# Altium integrated library WE-PD3 SMD Shielded Power Inductor.IntLib: 65 symbols
Pins are listed as number, name and electrical type; pins without a type are passive.

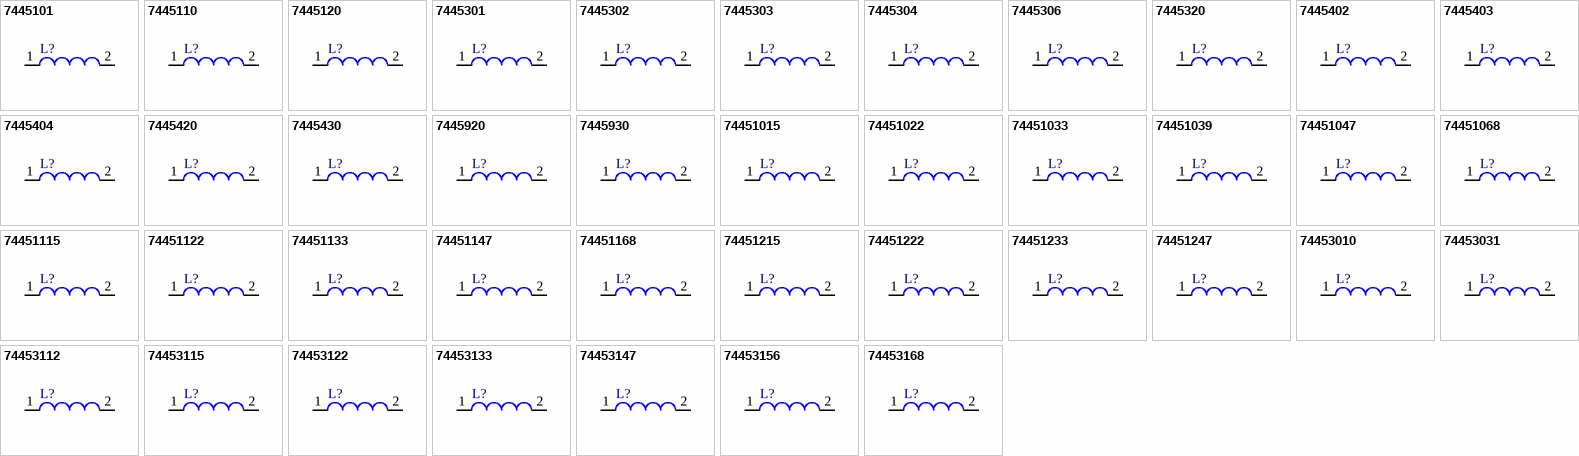
[diagram p0: symbols 7445101 to 74453168]

## 7445101
designator L?
SMD Shielded Power Inductor WE-PD3, L = 1.00 µH; PartNumber: 7445101; Inductance: 1.00 µH; DatasheetVersion: ver 7, Feb-2009; PackageReference: WE-PD3-S; PackageDescription: SMD Inductor, 2-Leads, Body 6.6 x 4.45 mm; ComponentLink1Description: Manufacturer URL; ComponentLink1URL: http://www.we-online.com; ComponentLink2Description: Datasheet; ComponentLink2URL: http://www.we-online.de/katalog/media/pdf/7445101.pdf
footprint WE-PD3-S (SMD Inductor, 2-Leads, Body 6.6x4.45x2.92 mm)
pins: 1, 2

## 7445110
designator L?
SMD Shielded Power Inductor WE-PD3, L = 10.0 µH; PartNumber: 7445110; Inductance: 10.0 µH; DatasheetVersion: ver 7, Feb-2009; PackageReference: WE-PD3-S; PackageDescription: SMD Inductor, 2-Leads, Body 6.6 x 4.45 mm; ComponentLink1Description: Manufacturer URL; ComponentLink1URL: http://www.we-online.com; ComponentLink2Description: Datasheet; ComponentLink2URL: http://www.we-online.de/katalog/media/pdf/7445110.pdf
footprint WE-PD3-S (SMD Inductor, 2-Leads, Body 6.6x4.45x2.92 mm)
pins: 1, 2

## 7445120
designator L?
SMD Shielded Power Inductor WE-PD3, L = 100 µH; PartNumber: 7445120; Inductance: 100 µH; DatasheetVersion: ver 7, Feb-2009; PackageReference: WE-PD3-S; PackageDescription: SMD Inductor, 2-Leads, Body 6.6 x 4.45 mm; ComponentLink1Description: Manufacturer URL; ComponentLink1URL: http://www.we-online.com; ComponentLink2Description: Datasheet; ComponentLink2URL: http://www.we-online.de/katalog/media/pdf/7445120.pdf
footprint WE-PD3-S (SMD Inductor, 2-Leads, Body 6.6x4.45x2.92 mm)
pins: 1, 2

## 7445301
designator L?
SMD Shielded Power Inductor WE-PD3, L = 1.50 µH; PartNumber: 7445301; Inductance: 1.50 µH; DatasheetVersion: ver 1, Oct-2004; PackageReference: WE-PD3-M; PackageDescription: SMD Inductor, 2-Leads, Body 12.7 x 10.3 mm; ComponentLink1Description: Manufacturer URL; ComponentLink1URL: http://www.we-online.com; ComponentLink2Description: Datasheet; ComponentLink2URL: http://www.we-online.de/katalog/media/pdf/7445301.pdf
footprint WE-PD3-M (SMD Inductor, 2-Leads, Body 12.7 x 10.3 mm)
pins: 1, 2

## 7445302
designator L?
SMD Shielded Power Inductor WE-PD3, L = 2.20 µH; PartNumber: 7445302; Inductance: 2.20 µH; DatasheetVersion: ver 1, Oct-2004; PackageReference: WE-PD3-M; PackageDescription: SMD Inductor, 2-Leads, Body 12.7 x 10.3 mm; ComponentLink1Description: Manufacturer URL; ComponentLink1URL: http://www.we-online.com; ComponentLink2Description: Datasheet; ComponentLink2URL: http://www.we-online.de/katalog/media/pdf/7445302.pdf
footprint WE-PD3-M (SMD Inductor, 2-Leads, Body 12.7 x 10.3 mm)
pins: 1, 2

## 7445303
designator L?
SMD Shielded Power Inductor WE-PD3, L = 3.90 µH; PartNumber: 7445303; Inductance: 3.90 µH; DatasheetVersion: ver 1, Oct-2004; PackageReference: WE-PD3-M; PackageDescription: SMD Inductor, 2-Leads, Body 12.7 x 10.3 mm; ComponentLink1Description: Manufacturer URL; ComponentLink1URL: http://www.we-online.com; ComponentLink2Description: Datasheet; ComponentLink2URL: http://www.we-online.de/katalog/media/pdf/7445303.pdf
footprint WE-PD3-M (SMD Inductor, 2-Leads, Body 12.7 x 10.3 mm)
pins: 1, 2

## 7445304
designator L?
SMD Shielded Power Inductor WE-PD3, L = 4.70 µH; PartNumber: 7445304; Inductance: 4.70 µH; DatasheetVersion: ver 1, Oct-2004; PackageReference: WE-PD3-M; PackageDescription: SMD Inductor, 2-Leads, Body 12.7 x 10.3 mm; ComponentLink1Description: Manufacturer URL; ComponentLink1URL: http://www.we-online.com; ComponentLink2Description: Datasheet; ComponentLink2URL: http://www.we-online.de/katalog/media/pdf/7445304.pdf
footprint WE-PD3-M (SMD Inductor, 2-Leads, Body 12.7 x 10.3 mm)
pins: 1, 2

## 7445306
designator L?
SMD Shielded Power Inductor WE-PD3, L = 6.80 µH; PartNumber: 7445306; Inductance: 6.80 µH; DatasheetVersion: ver 2, May-2008; PackageReference: WE-PD3-M; PackageDescription: SMD Inductor, 2-Leads, Body 12.7 x 10.3 mm; ComponentLink1Description: Manufacturer URL; ComponentLink1URL: http://www.we-online.com; ComponentLink2Description: Datasheet; ComponentLink2URL: http://www.we-online.de/katalog/media/pdf/7445306.pdf
footprint WE-PD3-M (SMD Inductor, 2-Leads, Body 12.7 x 10.3 mm)
pins: 1, 2

## 7445320
designator L?
SMD Shielded Power Inductor WE-PD3, L = 100 µH; PartNumber: 7445320; Inductance: 100 µH; DatasheetVersion: ver 1, Oct-2004; PackageReference: WE-PD3-M; PackageDescription: SMD Inductor, 2-Leads, Body 12.7 x 10.3 mm; ComponentLink1Description: Manufacturer URL; ComponentLink1URL: http://www.we-online.com; ComponentLink2Description: Datasheet; ComponentLink2URL: http://www.we-online.de/katalog/media/pdf/7445320.pdf
footprint WE-PD3-M (SMD Inductor, 2-Leads, Body 12.7 x 10.3 mm)
pins: 1, 2

## 7445402
designator L?
SMD Shielded Power Inductor WE-PD3, L = 2.20 µH; PartNumber: 7445402; Inductance: 2.20 µH; DatasheetVersion: ver 2, Sep-2006; PackageReference: WE-PD3-L; PackageDescription: SMD Inductor, 2-Leads, Body 12.7 x 10.0 mm; ComponentLink1Description: Manufacturer URL; ComponentLink1URL: http://www.we-online.com; ComponentLink2Description: Datasheet; ComponentLink2URL: http://www.we-online.de/katalog/media/pdf/7445402.pdf
footprint WE-PD3-L (SMD Inductor, 2-Leads, Body 12.7x10.0x5.2 mm)
pins: 1, 2

## 7445403
designator L?
SMD Shielded Power Inductor WE-PD3, L = 3.00 µH; PartNumber: 7445403; Inductance: 3.00 µH; DatasheetVersion: ver 2, Sep-2006; PackageReference: WE-PD3-L; PackageDescription: SMD Inductor, 2-Leads, Body 12.7 x 10.0 mm; ComponentLink1Description: Manufacturer URL; ComponentLink1URL: http://www.we-online.com; ComponentLink2Description: Datasheet; ComponentLink2URL: http://www.we-online.de/katalog/media/pdf/7445403.pdf
footprint WE-PD3-L (SMD Inductor, 2-Leads, Body 12.7x10.0x5.2 mm)
pins: 1, 2

## 7445404
designator L?
SMD Shielded Power Inductor WE-PD3, L = 4.70 µH; PartNumber: 7445404; Inductance: 4.70 µH; DatasheetVersion: ver 2, Sep-2006; PackageReference: WE-PD3-L; PackageDescription: SMD Inductor, 2-Leads, Body 12.7 x 10.0 mm; ComponentLink1Description: Manufacturer URL; ComponentLink1URL: http://www.we-online.com; ComponentLink2Description: Datasheet; ComponentLink2URL: http://www.we-online.de/katalog/media/pdf/7445404.pdf
footprint WE-PD3-L (SMD Inductor, 2-Leads, Body 12.7x10.0x5.2 mm)
pins: 1, 2

## 7445420
designator L?
SMD Shielded Power Inductor WE-PD3, L = 100 µH; PartNumber: 7445420; Inductance: 100 µH; DatasheetVersion: ver 2, Sep-2006; PackageReference: WE-PD3-L; PackageDescription: SMD Inductor, 2-Leads, Body 12.7 x 10.0 mm; ComponentLink1Description: Manufacturer URL; ComponentLink1URL: http://www.we-online.com; ComponentLink2Description: Datasheet; ComponentLink2URL: http://www.we-online.de/katalog/media/pdf/7445420.pdf
footprint WE-PD3-L (SMD Inductor, 2-Leads, Body 12.7x10.0x5.2 mm)
pins: 1, 2

## 7445430
designator L?
SMD Shielded Power Inductor WE-PD3, L = 1000 µH; PartNumber: 7445430; Inductance: 1000 µH; DatasheetVersion: ver 2, Sep-2006; PackageReference: WE-PD3-L; PackageDescription: SMD Inductor, 2-Leads, Body 12.7 x 10.0 mm; ComponentLink1Description: Manufacturer URL; ComponentLink1URL: http://www.we-online.com; ComponentLink2Description: Datasheet; ComponentLink2URL: http://www.we-online.de/katalog/media/pdf/7445430.pdf
footprint WE-PD3-L (SMD Inductor, 2-Leads, Body 12.7x10.0x5.2 mm)
pins: 1, 2

## 7445920
designator L?
SMD Shielded Power Inductor WE-PD3, L = 100 µH; PartNumber: 7445920; Inductance: 100 µH; DatasheetVersion: ver 1, Oct-2004; PackageReference: WE-PD3-X; PackageDescription: SMD Inductor, 2-Leads, Body 18.54 x 15.24 mm; ComponentLink1Description: Manufacturer URL; ComponentLink1URL: http://www.we-online.com; ComponentLink2Description: Datasheet; ComponentLink2URL: http://www.we-online.de/katalog/media/pdf/7445920.pdf
footprint WE-PD3-X (SMD Inductor, 2-Leads, Body 18.54x15.24x7.62 mm)
pins: 1, 2

## 7445930
designator L?
SMD Shielded Power Inductor WE-PD3, L = 1000 µH; PartNumber: 7445930; Inductance: 1000 µH; DatasheetVersion: ver 1, Oct-2004; PackageReference: WE-PD3-X; PackageDescription: SMD Inductor, 2-Leads, Body 18.54 x 15.24 mm; ComponentLink1Description: Manufacturer URL; ComponentLink1URL: http://www.we-online.com; ComponentLink2Description: Datasheet; ComponentLink2URL: http://www.we-online.de/katalog/media/pdf/7445930.pdf
footprint WE-PD3-X (SMD Inductor, 2-Leads, Body 18.54x15.24x7.62 mm)
pins: 1, 2

## 74451015
designator L?
SMD Shielded Power Inductor WE-PD3, L = 1.50 µH; PartNumber: 74451015; Inductance: 1.50 µH; DatasheetVersion: ver 7, Feb-2009; PackageReference: WE-PD3-S; PackageDescription: SMD Inductor, 2-Leads, Body 6.6 x 4.45 mm; ComponentLink1Description: Manufacturer URL; ComponentLink1URL: http://www.we-online.com; ComponentLink2Description: Datasheet; ComponentLink2URL: http://www.we-online.de/katalog/media/pdf/74451015.pdf
footprint WE-PD3-S (SMD Inductor, 2-Leads, Body 6.6x4.45x2.92 mm)
pins: 1, 2

## 74451022
designator L?
SMD Shielded Power Inductor WE-PD3, L = 2.20 µH; PartNumber: 74451022; Inductance: 2.20 µH; DatasheetVersion: ver 7, Feb-2009; PackageReference: WE-PD3-S; PackageDescription: SMD Inductor, 2-Leads, Body 6.6 x 4.45 mm; ComponentLink1Description: Manufacturer URL; ComponentLink1URL: http://www.we-online.com; ComponentLink2Description: Datasheet; ComponentLink2URL: http://www.we-online.de/katalog/media/pdf/74451022.pdf
footprint WE-PD3-S (SMD Inductor, 2-Leads, Body 6.6x4.45x2.92 mm)
pins: 1, 2

## 74451033
designator L?
SMD Shielded Power Inductor WE-PD3, L = 3.30 µH; PartNumber: 74451033; Inductance: 3.30 µH; DatasheetVersion: ver 7, Feb-2009; PackageReference: WE-PD3-S; PackageDescription: SMD Inductor, 2-Leads, Body 6.6 x 4.45 mm; ComponentLink1Description: Manufacturer URL; ComponentLink1URL: http://www.we-online.com; ComponentLink2Description: Datasheet; ComponentLink2URL: http://www.we-online.de/katalog/media/pdf/74451033.pdf
footprint WE-PD3-S (SMD Inductor, 2-Leads, Body 6.6x4.45x2.92 mm)
pins: 1, 2

## 74451039
designator L?
SMD Shielded Power Inductor WE-PD3, L = 3.90 µH; PartNumber: 74451039; Inductance: 3.90 µH; DatasheetVersion: ver 7, Feb-2009; PackageReference: WE-PD3-S; PackageDescription: SMD Inductor, 2-Leads, Body 6.6 x 4.45 mm; ComponentLink1Description: Manufacturer URL; ComponentLink1URL: http://www.we-online.com; ComponentLink2Description: Datasheet; ComponentLink2URL: http://www.we-online.de/katalog/media/pdf/74451039.pdf
footprint WE-PD3-S (SMD Inductor, 2-Leads, Body 6.6x4.45x2.92 mm)
pins: 1, 2

## 74451047
designator L?
SMD Shielded Power Inductor WE-PD3, L = 4.70 µH; PartNumber: 74451047; Inductance: 4.70 µH; DatasheetVersion: ver 7, Feb-2009; PackageReference: WE-PD3-S; PackageDescription: SMD Inductor, 2-Leads, Body 6.6 x 4.45 mm; ComponentLink1Description: Manufacturer URL; ComponentLink1URL: http://www.we-online.com; ComponentLink2Description: Datasheet; ComponentLink2URL: http://www.we-online.de/katalog/media/pdf/74451047.pdf
footprint WE-PD3-S (SMD Inductor, 2-Leads, Body 6.6x4.45x2.92 mm)
pins: 1, 2

## 74451068
designator L?
SMD Shielded Power Inductor WE-PD3, L = 6.80 µH; PartNumber: 74451068; Inductance: 6.80 µH; DatasheetVersion: ver 7, Feb-2009; PackageReference: WE-PD3-S; PackageDescription: SMD Inductor, 2-Leads, Body 6.6 x 4.45 mm; ComponentLink1Description: Manufacturer URL; ComponentLink1URL: http://www.we-online.com; ComponentLink2Description: Datasheet; ComponentLink2URL: http://www.we-online.de/katalog/media/pdf/74451068.pdf
footprint WE-PD3-S (SMD Inductor, 2-Leads, Body 6.6x4.45x2.92 mm)
pins: 1, 2

## 74451115
designator L?
SMD Shielded Power Inductor WE-PD3, L = 15.0 µH; PartNumber: 74451115; Inductance: 15.0 µH; DatasheetVersion: ver 7, Feb-2009; PackageReference: WE-PD3-S; PackageDescription: SMD Inductor, 2-Leads, Body 6.6 x 4.45 mm; ComponentLink1Description: Manufacturer URL; ComponentLink1URL: http://www.we-online.com; ComponentLink2Description: Datasheet; ComponentLink2URL: http://www.we-online.de/katalog/media/pdf/74451115.pdf
footprint WE-PD3-S (SMD Inductor, 2-Leads, Body 6.6x4.45x2.92 mm)
pins: 1, 2

## 74451122
designator L?
SMD Shielded Power Inductor WE-PD3, L = 22.0 µH; PartNumber: 74451122; Inductance: 22.0 µH; DatasheetVersion: ver 7, Feb-2009; PackageReference: WE-PD3-S; PackageDescription: SMD Inductor, 2-Leads, Body 6.6 x 4.45 mm; ComponentLink1Description: Manufacturer URL; ComponentLink1URL: http://www.we-online.com; ComponentLink2Description: Datasheet; ComponentLink2URL: http://www.we-online.de/katalog/media/pdf/74451122.pdf
footprint WE-PD3-S (SMD Inductor, 2-Leads, Body 6.6x4.45x2.92 mm)
pins: 1, 2

## 74451133
designator L?
SMD Shielded Power Inductor WE-PD3, L = 33.0 µH; PartNumber: 74451133; Inductance: 33.0 µH; DatasheetVersion: ver 7, Feb-2009; PackageReference: WE-PD3-S; PackageDescription: SMD Inductor, 2-Leads, Body 6.6 x 4.45 mm; ComponentLink1Description: Manufacturer URL; ComponentLink1URL: http://www.we-online.com; ComponentLink2Description: Datasheet; ComponentLink2URL: http://www.we-online.de/katalog/media/pdf/74451133.pdf
footprint WE-PD3-S (SMD Inductor, 2-Leads, Body 6.6x4.45x2.92 mm)
pins: 1, 2

## 74451147
designator L?
SMD Shielded Power Inductor WE-PD3, L = 47.0 µH; PartNumber: 74451147; Inductance: 47.0 µH; DatasheetVersion: ver 7, Feb-2009; PackageReference: WE-PD3-S; PackageDescription: SMD Inductor, 2-Leads, Body 6.6 x 4.45 mm; ComponentLink1Description: Manufacturer URL; ComponentLink1URL: http://www.we-online.com; ComponentLink2Description: Datasheet; ComponentLink2URL: http://www.we-online.de/katalog/media/pdf/74451147.pdf
footprint WE-PD3-S (SMD Inductor, 2-Leads, Body 6.6x4.45x2.92 mm)
pins: 1, 2

## 74451168
designator L?
SMD Shielded Power Inductor WE-PD3, L = 68.0 µH; PartNumber: 74451168; Inductance: 68.0 µH; DatasheetVersion: ver 7, Feb-2009; PackageReference: WE-PD3-S; PackageDescription: SMD Inductor, 2-Leads, Body 6.6 x 4.45 mm; ComponentLink1Description: Manufacturer URL; ComponentLink1URL: http://www.we-online.com; ComponentLink2Description: Datasheet; ComponentLink2URL: http://www.we-online.de/katalog/media/pdf/74451168.pdf
footprint WE-PD3-S (SMD Inductor, 2-Leads, Body 6.6x4.45x2.92 mm)
pins: 1, 2

## 74451215
designator L?
SMD Shielded Power Inductor WE-PD3, L = 150 µH; PartNumber: 74451215; Inductance: 150 µH; DatasheetVersion: ver 7, Feb-2009; PackageReference: WE-PD3-S; PackageDescription: SMD Inductor, 2-Leads, Body 6.6 x 4.45 mm; ComponentLink1Description: Manufacturer URL; ComponentLink1URL: http://www.we-online.com; ComponentLink2Description: Datasheet; ComponentLink2URL: http://www.we-online.de/katalog/media/pdf/74451215.pdf
footprint WE-PD3-S (SMD Inductor, 2-Leads, Body 6.6x4.45x2.92 mm)
pins: 1, 2

## 74451222
designator L?
SMD Shielded Power Inductor WE-PD3, L = 220 µH; PartNumber: 74451222; Inductance: 220 µH; DatasheetVersion: ver 7, Feb-2009; PackageReference: WE-PD3-S; PackageDescription: SMD Inductor, 2-Leads, Body 6.6 x 4.45 mm; ComponentLink1Description: Manufacturer URL; ComponentLink1URL: http://www.we-online.com; ComponentLink2Description: Datasheet; ComponentLink2URL: http://www.we-online.de/katalog/media/pdf/74451222.pdf
footprint WE-PD3-S (SMD Inductor, 2-Leads, Body 6.6x4.45x2.92 mm)
pins: 1, 2

## 74451233
designator L?
SMD Shielded Power Inductor WE-PD3, L = 330 µH; PartNumber: 74451233; Inductance: 330 µH; DatasheetVersion: ver 7, Feb-2009; PackageReference: WE-PD3-S; PackageDescription: SMD Inductor, 2-Leads, Body 6.6 x 4.45 mm; ComponentLink1Description: Manufacturer URL; ComponentLink1URL: http://www.we-online.com; ComponentLink2Description: Datasheet; ComponentLink2URL: http://www.we-online.de/katalog/media/pdf/74451233.pdf
footprint WE-PD3-S (SMD Inductor, 2-Leads, Body 6.6x4.45x2.92 mm)
pins: 1, 2

## 74451247
designator L?
SMD Shielded Power Inductor WE-PD3, L = 470 µH; PartNumber: 74451247; Inductance: 470 µH; DatasheetVersion: ver 7, Feb-2009; PackageReference: WE-PD3-S; PackageDescription: SMD Inductor, 2-Leads, Body 6.6 x 4.45 mm; ComponentLink1Description: Manufacturer URL; ComponentLink1URL: http://www.we-online.com; ComponentLink2Description: Datasheet; ComponentLink2URL: http://www.we-online.de/katalog/media/pdf/74451247.pdf
footprint WE-PD3-S (SMD Inductor, 2-Leads, Body 6.6x4.45x2.92 mm)
pins: 1, 2

## 74453010
designator L?
SMD Shielded Power Inductor WE-PD3, L = 10.0 µH; PartNumber: 74453010; Inductance: 10.0 µH; DatasheetVersion: ver 1, Oct-2004; PackageReference: WE-PD3-M; PackageDescription: SMD Inductor, 2-Leads, Body 12.7 x 10.3 mm; ComponentLink1Description: Manufacturer URL; ComponentLink1URL: http://www.we-online.com; ComponentLink2Description: Datasheet; ComponentLink2URL: http://www.we-online.de/katalog/media/pdf/74453010.pdf
footprint WE-PD3-M (SMD Inductor, 2-Leads, Body 12.7 x 10.3 mm)
pins: 1, 2

## 74453031
designator L?
SMD Shielded Power Inductor WE-PD3, L = 3.30 µH; PartNumber: 74453031; Inductance: 3.30 µH; DatasheetVersion: ver 1, Oct-2004; PackageReference: WE-PD3-M; PackageDescription: SMD Inductor, 2-Leads, Body 12.7 x 10.3 mm; ComponentLink1Description: Manufacturer URL; ComponentLink1URL: http://www.we-online.com; ComponentLink2Description: Datasheet; ComponentLink2URL: http://www.we-online.de/katalog/media/pdf/74453031.pdf
footprint WE-PD3-M (SMD Inductor, 2-Leads, Body 12.7 x 10.3 mm)
pins: 1, 2

## 74453112
designator L?
SMD Shielded Power Inductor WE-PD3, L = 12.0 µH; PartNumber: 74453112; Inductance: 12.0 µH; DatasheetVersion: ver 1, Oct-2004; PackageReference: WE-PD3-M; PackageDescription: SMD Inductor, 2-Leads, Body 12.7 x 10.3 mm; ComponentLink1Description: Manufacturer URL; ComponentLink1URL: http://www.we-online.com; ComponentLink2Description: Datasheet; ComponentLink2URL: http://www.we-online.de/katalog/media/pdf/74453112.pdf
footprint WE-PD3-M (SMD Inductor, 2-Leads, Body 12.7 x 10.3 mm)
pins: 1, 2

## 74453115
designator L?
SMD Shielded Power Inductor WE-PD3, L = 15.0 µH; PartNumber: 74453115; Inductance: 15.0 µH; DatasheetVersion: ver 1, Oct-2004; PackageReference: WE-PD3-M; PackageDescription: SMD Inductor, 2-Leads, Body 12.7 x 10.3 mm; ComponentLink1Description: Manufacturer URL; ComponentLink1URL: http://www.we-online.com; ComponentLink2Description: Datasheet; ComponentLink2URL: http://www.we-online.de/katalog/media/pdf/74453115.pdf
footprint WE-PD3-M (SMD Inductor, 2-Leads, Body 12.7 x 10.3 mm)
pins: 1, 2

## 74453122
designator L?
SMD Shielded Power Inductor WE-PD3, L = 22.0 µH; PartNumber: 74453122; Inductance: 22.0 µH; DatasheetVersion: ver 1, Oct-2004; PackageReference: WE-PD3-M; PackageDescription: SMD Inductor, 2-Leads, Body 12.7 x 10.3 mm; ComponentLink1Description: Manufacturer URL; ComponentLink1URL: http://www.we-online.com; ComponentLink2Description: Datasheet; ComponentLink2URL: http://www.we-online.de/katalog/media/pdf/74453122.pdf
footprint WE-PD3-M (SMD Inductor, 2-Leads, Body 12.7 x 10.3 mm)
pins: 1, 2

## 74453133
designator L?
SMD Shielded Power Inductor WE-PD3, L = 33.0 µH; PartNumber: 74453133; Inductance: 33.0 µH; DatasheetVersion: ver 1, Oct-2004; PackageReference: WE-PD3-M; PackageDescription: SMD Inductor, 2-Leads, Body 12.7 x 10.3 mm; ComponentLink1Description: Manufacturer URL; ComponentLink1URL: http://www.we-online.com; ComponentLink2Description: Datasheet; ComponentLink2URL: http://www.we-online.de/katalog/media/pdf/74453133.pdf
footprint WE-PD3-M (SMD Inductor, 2-Leads, Body 12.7 x 10.3 mm)
pins: 1, 2

## 74453147
designator L?
SMD Shielded Power Inductor WE-PD3, L = 47.0 µH; PartNumber: 74453147; Inductance: 47.0 µH; DatasheetVersion: ver 1, Oct-2004; PackageReference: WE-PD3-M; PackageDescription: SMD Inductor, 2-Leads, Body 12.7 x 10.3 mm; ComponentLink1Description: Manufacturer URL; ComponentLink1URL: http://www.we-online.com; ComponentLink2Description: Datasheet; ComponentLink2URL: http://www.we-online.de/katalog/media/pdf/74453147.pdf
footprint WE-PD3-M (SMD Inductor, 2-Leads, Body 12.7 x 10.3 mm)
pins: 1, 2

## 74453156
designator L?
SMD Shielded Power Inductor WE-PD3, L = 56.0 µH; PartNumber: 74453156; Inductance: 56.0 µH; DatasheetVersion: ver 1, Oct-2004; PackageReference: WE-PD3-M; PackageDescription: SMD Inductor, 2-Leads, Body 12.7 x 10.3 mm; ComponentLink1Description: Manufacturer URL; ComponentLink1URL: http://www.we-online.com; ComponentLink2Description: Datasheet; ComponentLink2URL: http://www.we-online.de/katalog/media/pdf/74453156.pdf
footprint WE-PD3-M (SMD Inductor, 2-Leads, Body 12.7 x 10.3 mm)
pins: 1, 2

## 74453168
designator L?
SMD Shielded Power Inductor WE-PD3, L = 68.0 µH; PartNumber: 74453168; Inductance: 68.0 µH; DatasheetVersion: ver 1, Oct-2004; PackageReference: WE-PD3-M; PackageDescription: SMD Inductor, 2-Leads, Body 12.7 x 10.3 mm; ComponentLink1Description: Manufacturer URL; ComponentLink1URL: http://www.we-online.com; ComponentLink2Description: Datasheet; ComponentLink2URL: http://www.we-online.de/katalog/media/pdf/74453168.pdf
footprint WE-PD3-M (SMD Inductor, 2-Leads, Body 12.7 x 10.3 mm)
pins: 1, 2

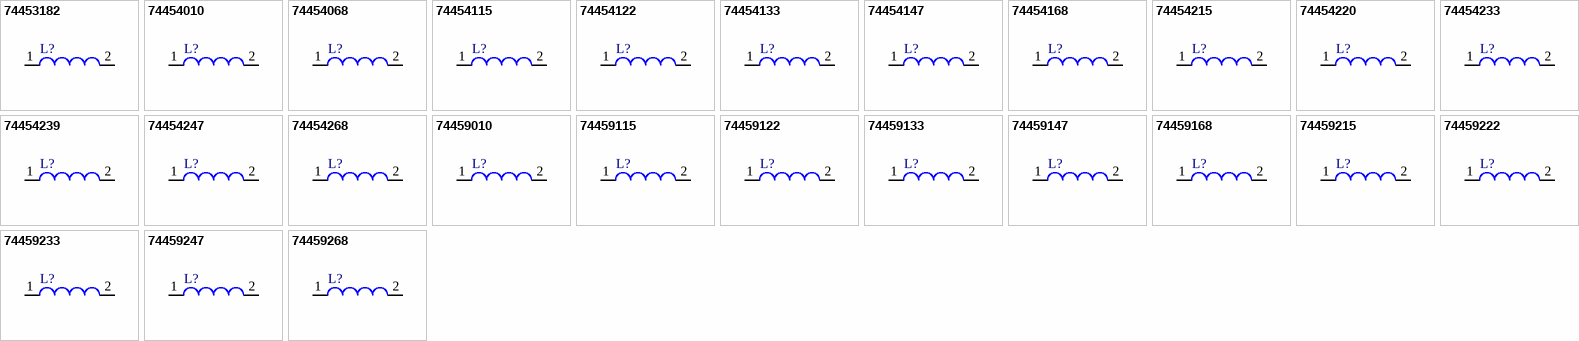
[diagram p1: symbols 74453182 to 74459268]

## 74453182
designator L?
SMD Shielded Power Inductor WE-PD3, L = 82.0 µH; PartNumber: 74453182; Inductance: 82.0 µH; DatasheetVersion: ver 1, Oct-2004; PackageReference: WE-PD3-M; PackageDescription: SMD Inductor, 2-Leads, Body 12.7 x 10.3 mm; ComponentLink1Description: Manufacturer URL; ComponentLink1URL: http://www.we-online.com; ComponentLink2Description: Datasheet; ComponentLink2URL: http://www.we-online.de/katalog/media/pdf/74453182.pdf
footprint WE-PD3-M (SMD Inductor, 2-Leads, Body 12.7 x 10.3 mm)
pins: 1, 2

## 74454010
designator L?
SMD Shielded Power Inductor WE-PD3, L = 10.0 µH; PartNumber: 74454010; Inductance: 10.0 µH; DatasheetVersion: ver 2, Sep-2006; PackageReference: WE-PD3-L; PackageDescription: SMD Inductor, 2-Leads, Body 12.7 x 10.0 mm; ComponentLink1Description: Manufacturer URL; ComponentLink1URL: http://www.we-online.com; ComponentLink2Description: Datasheet; ComponentLink2URL: http://www.we-online.de/katalog/media/pdf/74454010.pdf
footprint WE-PD3-L (SMD Inductor, 2-Leads, Body 12.7x10.0x5.2 mm)
pins: 1, 2

## 74454068
designator L?
SMD Shielded Power Inductor WE-PD3, L = 6.80 µH; PartNumber: 74454068; Inductance: 6.80 µH; DatasheetVersion: ver 3, Aug-2009; PackageReference: WE-PD3-L; PackageDescription: SMD Inductor, 2-Leads, Body 12.7 x 10.0 mm; ComponentLink1Description: Manufacturer URL; ComponentLink1URL: http://www.we-online.com; ComponentLink2Description: Datasheet; ComponentLink2URL: http://www.we-online.de/katalog/media/pdf/74454068.pdf
footprint WE-PD3-L (SMD Inductor, 2-Leads, Body 12.7x10.0x5.2 mm)
pins: 1, 2

## 74454115
designator L?
SMD Shielded Power Inductor WE-PD3, L = 15.0 µH; PartNumber: 74454115; Inductance: 15.0 µH; DatasheetVersion: ver 2, Sep-2006; PackageReference: WE-PD3-L; PackageDescription: SMD Inductor, 2-Leads, Body 12.7 x 10.0 mm; ComponentLink1Description: Manufacturer URL; ComponentLink1URL: http://www.we-online.com; ComponentLink2Description: Datasheet; ComponentLink2URL: http://www.we-online.de/katalog/media/pdf/74454115.pdf
footprint WE-PD3-L (SMD Inductor, 2-Leads, Body 12.7x10.0x5.2 mm)
pins: 1, 2

## 74454122
designator L?
SMD Shielded Power Inductor WE-PD3, L = 22.0 µH; PartNumber: 74454122; Inductance: 22.0 µH; DatasheetVersion: ver 2, Sep-2006; PackageReference: WE-PD3-L; PackageDescription: SMD Inductor, 2-Leads, Body 12.7 x 10.0 mm; ComponentLink1Description: Manufacturer URL; ComponentLink1URL: http://www.we-online.com; ComponentLink2Description: Datasheet; ComponentLink2URL: http://www.we-online.de/katalog/media/pdf/74454122.pdf
footprint WE-PD3-L (SMD Inductor, 2-Leads, Body 12.7x10.0x5.2 mm)
pins: 1, 2

## 74454133
designator L?
SMD Shielded Power Inductor WE-PD3, L = 33.0 µH; PartNumber: 74454133; Inductance: 33.0 µH; DatasheetVersion: ver 2, Sep-2006; PackageReference: WE-PD3-L; PackageDescription: SMD Inductor, 2-Leads, Body 12.7 x 10.0 mm; ComponentLink1Description: Manufacturer URL; ComponentLink1URL: http://www.we-online.com; ComponentLink2Description: Datasheet; ComponentLink2URL: http://www.we-online.de/katalog/media/pdf/74454133.pdf
footprint WE-PD3-L (SMD Inductor, 2-Leads, Body 12.7x10.0x5.2 mm)
pins: 1, 2

## 74454147
designator L?
SMD Shielded Power Inductor WE-PD3, L = 47.0 µH; PartNumber: 74454147; Inductance: 47.0 µH; DatasheetVersion: ver 2, Sep-2006; PackageReference: WE-PD3-L; PackageDescription: SMD Inductor, 2-Leads, Body 12.7 x 10.0 mm; ComponentLink1Description: Manufacturer URL; ComponentLink1URL: http://www.we-online.com; ComponentLink2Description: Datasheet; ComponentLink2URL: http://www.we-online.de/katalog/media/pdf/74454147.pdf
footprint WE-PD3-L (SMD Inductor, 2-Leads, Body 12.7x10.0x5.2 mm)
pins: 1, 2

## 74454168
designator L?
SMD Shielded Power Inductor WE-PD3, L = 68.0 µH; PartNumber: 74454168; Inductance: 68.0 µH; DatasheetVersion: ver 2, Sep-2006; PackageReference: WE-PD3-L; PackageDescription: SMD Inductor, 2-Leads, Body 12.7 x 10.0 mm; ComponentLink1Description: Manufacturer URL; ComponentLink1URL: http://www.we-online.com; ComponentLink2Description: Datasheet; ComponentLink2URL: http://www.we-online.de/katalog/media/pdf/74454168.pdf
footprint WE-PD3-L (SMD Inductor, 2-Leads, Body 12.7x10.0x5.2 mm)
pins: 1, 2

## 74454215
designator L?
SMD Shielded Power Inductor WE-PD3, L = 150 µH; PartNumber: 74454215; Inductance: 150 µH; DatasheetVersion: ver 2, Sep-2006; PackageReference: WE-PD3-L; PackageDescription: SMD Inductor, 2-Leads, Body 12.7 x 10.0 mm; ComponentLink1Description: Manufacturer URL; ComponentLink1URL: http://www.we-online.com; ComponentLink2Description: Datasheet; ComponentLink2URL: http://www.we-online.de/katalog/media/pdf/74454215.pdf
footprint WE-PD3-L (SMD Inductor, 2-Leads, Body 12.7x10.0x5.2 mm)
pins: 1, 2

## 74454220
designator L?
SMD Shielded Power Inductor WE-PD3, L = 220 µH; PartNumber: 74454220; Inductance: 220 µH; DatasheetVersion: ver 2, Sep-2006; PackageReference: WE-PD3-L; PackageDescription: SMD Inductor, 2-Leads, Body 12.7 x 10.0 mm; ComponentLink1Description: Manufacturer URL; ComponentLink1URL: http://www.we-online.com; ComponentLink2Description: Datasheet; ComponentLink2URL: http://www.we-online.de/katalog/media/pdf/74454220.pdf
footprint WE-PD3-L (SMD Inductor, 2-Leads, Body 12.7x10.0x5.2 mm)
pins: 1, 2

## 74454233
designator L?
SMD Shielded Power Inductor WE-PD3, L = 330 µH; PartNumber: 74454233; Inductance: 330 µH; DatasheetVersion: ver 2, Sep-2006; PackageReference: WE-PD3-L; PackageDescription: SMD Inductor, 2-Leads, Body 12.7 x 10.0 mm; ComponentLink1Description: Manufacturer URL; ComponentLink1URL: http://www.we-online.com; ComponentLink2Description: Datasheet; ComponentLink2URL: http://www.we-online.de/katalog/media/pdf/74454233.pdf
footprint WE-PD3-L (SMD Inductor, 2-Leads, Body 12.7x10.0x5.2 mm)
pins: 1, 2

## 74454239
designator L?
SMD Shielded Power Inductor WE-PD3, L = 390 µH; PartNumber: 74454239; Inductance: 390 µH; DatasheetVersion: ver 2, Sep-2006; PackageReference: WE-PD3-L; PackageDescription: SMD Inductor, 2-Leads, Body 12.7 x 10.0 mm; ComponentLink1Description: Manufacturer URL; ComponentLink1URL: http://www.we-online.com; ComponentLink2Description: Datasheet; ComponentLink2URL: http://www.we-online.de/katalog/media/pdf/74454239.pdf
footprint WE-PD3-L (SMD Inductor, 2-Leads, Body 12.7x10.0x5.2 mm)
pins: 1, 2

## 74454247
designator L?
SMD Shielded Power Inductor WE-PD3, L = 470 µH; PartNumber: 74454247; Inductance: 470 µH; DatasheetVersion: ver 2, Sep-2006; PackageReference: WE-PD3-L; PackageDescription: SMD Inductor, 2-Leads, Body 12.7 x 10.0 mm; ComponentLink1Description: Manufacturer URL; ComponentLink1URL: http://www.we-online.com; ComponentLink2Description: Datasheet; ComponentLink2URL: http://www.we-online.de/katalog/media/pdf/74454247.pdf
footprint WE-PD3-L (SMD Inductor, 2-Leads, Body 12.7x10.0x5.2 mm)
pins: 1, 2

## 74454268
designator L?
SMD Shielded Power Inductor WE-PD3, L = 680 µH; PartNumber: 74454268; Inductance: 680 µH; DatasheetVersion: ver 2, Sep-2006; PackageReference: WE-PD3-L; PackageDescription: SMD Inductor, 2-Leads, Body 12.7 x 10.0 mm; ComponentLink1Description: Manufacturer URL; ComponentLink1URL: http://www.we-online.com; ComponentLink2Description: Datasheet; ComponentLink2URL: http://www.we-online.de/katalog/media/pdf/74454268.pdf
footprint WE-PD3-L (SMD Inductor, 2-Leads, Body 12.7x10.0x5.2 mm)
pins: 1, 2

## 74459010
designator L?
SMD Shielded Power Inductor WE-PD3, L = 10.0 µH; PartNumber: 74459010; Inductance: 10.0 µH; DatasheetVersion: ver 1, Oct-2004; PackageReference: WE-PD3-X; PackageDescription: SMD Inductor, 2-Leads, Body 18.54 x 15.24 mm; ComponentLink1Description: Manufacturer URL; ComponentLink1URL: http://www.we-online.com; ComponentLink2Description: Datasheet; ComponentLink2URL: http://www.we-online.de/katalog/media/pdf/74459010.pdf
footprint WE-PD3-X (SMD Inductor, 2-Leads, Body 18.54x15.24x7.62 mm)
pins: 1, 2

## 74459115
designator L?
SMD Shielded Power Inductor WE-PD3, L = 15.0 µH; PartNumber: 74459115; Inductance: 15.0 µH; DatasheetVersion: ver 1, Oct-2004; PackageReference: WE-PD3-X; PackageDescription: SMD Inductor, 2-Leads, Body 18.54 x 15.24 mm; ComponentLink1Description: Manufacturer URL; ComponentLink1URL: http://www.we-online.com; ComponentLink2Description: Datasheet; ComponentLink2URL: http://www.we-online.de/katalog/media/pdf/74459115.pdf
footprint WE-PD3-X (SMD Inductor, 2-Leads, Body 18.54x15.24x7.62 mm)
pins: 1, 2

## 74459122
designator L?
SMD Shielded Power Inductor WE-PD3, L = 22.0 µH; PartNumber: 74459122; Inductance: 22.0 µH; DatasheetVersion: ver 1, Oct-2004; PackageReference: WE-PD3-X; PackageDescription: SMD Inductor, 2-Leads, Body 18.54 x 15.24 mm; ComponentLink1Description: Manufacturer URL; ComponentLink1URL: http://www.we-online.com; ComponentLink2Description: Datasheet; ComponentLink2URL: http://www.we-online.de/katalog/media/pdf/74459122.pdf
footprint WE-PD3-X (SMD Inductor, 2-Leads, Body 18.54x15.24x7.62 mm)
pins: 1, 2

## 74459133
designator L?
SMD Shielded Power Inductor WE-PD3, L = 33.0 µH; PartNumber: 74459133; Inductance: 33.0 µH; DatasheetVersion: ver 1, Oct-2004; PackageReference: WE-PD3-X; PackageDescription: SMD Inductor, 2-Leads, Body 18.54 x 15.24 mm; ComponentLink1Description: Manufacturer URL; ComponentLink1URL: http://www.we-online.com; ComponentLink2Description: Datasheet; ComponentLink2URL: http://www.we-online.de/katalog/media/pdf/74459133.pdf
footprint WE-PD3-X (SMD Inductor, 2-Leads, Body 18.54x15.24x7.62 mm)
pins: 1, 2

## 74459147
designator L?
SMD Shielded Power Inductor WE-PD3, L = 47.0 µH; PartNumber: 74459147; Inductance: 47.0 µH; DatasheetVersion: ver 1, Oct-2004; PackageReference: WE-PD3-X; PackageDescription: SMD Inductor, 2-Leads, Body 18.54 x 15.24 mm; ComponentLink1Description: Manufacturer URL; ComponentLink1URL: http://www.we-online.com; ComponentLink2Description: Datasheet; ComponentLink2URL: http://www.we-online.de/katalog/media/pdf/74459147.pdf
footprint WE-PD3-X (SMD Inductor, 2-Leads, Body 18.54x15.24x7.62 mm)
pins: 1, 2

## 74459168
designator L?
SMD Shielded Power Inductor WE-PD3, L = 68.0 µH; PartNumber: 74459168; Inductance: 68.0 µH; DatasheetVersion: ver 1, Oct-2004; PackageReference: WE-PD3-X; PackageDescription: SMD Inductor, 2-Leads, Body 18.54 x 15.24 mm; ComponentLink1Description: Manufacturer URL; ComponentLink1URL: http://www.we-online.com; ComponentLink2Description: Datasheet; ComponentLink2URL: http://www.we-online.de/katalog/media/pdf/74459168.pdf
footprint WE-PD3-X (SMD Inductor, 2-Leads, Body 18.54x15.24x7.62 mm)
pins: 1, 2

## 74459215
designator L?
SMD Shielded Power Inductor WE-PD3, L = 150 µH; PartNumber: 74459215; Inductance: 150 µH; DatasheetVersion: ver 1, Oct-2004; PackageReference: WE-PD3-X; PackageDescription: SMD Inductor, 2-Leads, Body 18.54 x 15.24 mm; ComponentLink1Description: Manufacturer URL; ComponentLink1URL: http://www.we-online.com; ComponentLink2Description: Datasheet; ComponentLink2URL: http://www.we-online.de/katalog/media/pdf/74459215.pdf
footprint WE-PD3-X (SMD Inductor, 2-Leads, Body 18.54x15.24x7.62 mm)
pins: 1, 2

## 74459222
designator L?
SMD Shielded Power Inductor WE-PD3, L = 220 µH; PartNumber: 74459222; Inductance: 220 µH; DatasheetVersion: ver 1, Oct-2004; PackageReference: WE-PD3-X; PackageDescription: SMD Inductor, 2-Leads, Body 18.54 x 15.24 mm; ComponentLink1Description: Manufacturer URL; ComponentLink1URL: http://www.we-online.com; ComponentLink2Description: Datasheet; ComponentLink2URL: http://www.we-online.de/katalog/media/pdf/74459222.pdf
footprint WE-PD3-X (SMD Inductor, 2-Leads, Body 18.54x15.24x7.62 mm)
pins: 1, 2

## 74459233
designator L?
SMD Shielded Power Inductor WE-PD3, L = 330 µH; PartNumber: 74459233; Inductance: 330 µH; DatasheetVersion: ver 1, Oct-2004; PackageReference: WE-PD3-X; PackageDescription: SMD Inductor, 2-Leads, Body 18.54 x 15.24 mm; ComponentLink1Description: Manufacturer URL; ComponentLink1URL: http://www.we-online.com; ComponentLink2Description: Datasheet; ComponentLink2URL: http://www.we-online.de/katalog/media/pdf/74459233.pdf
footprint WE-PD3-X (SMD Inductor, 2-Leads, Body 18.54x15.24x7.62 mm)
pins: 1, 2

## 74459247
designator L?
SMD Shielded Power Inductor WE-PD3, L = 470 µH; PartNumber: 74459247; Inductance: 470 µH; DatasheetVersion: ver 1, Oct-2004; PackageReference: WE-PD3-X; PackageDescription: SMD Inductor, 2-Leads, Body 18.54 x 15.24 mm; ComponentLink1Description: Manufacturer URL; ComponentLink1URL: http://www.we-online.com; ComponentLink2Description: Datasheet; ComponentLink2URL: http://www.we-online.de/katalog/media/pdf/74459247.pdf
footprint WE-PD3-X (SMD Inductor, 2-Leads, Body 18.54x15.24x7.62 mm)
pins: 1, 2

## 74459268
designator L?
SMD Shielded Power Inductor WE-PD3, L = 680 µH; PartNumber: 74459268; Inductance: 680 µH; DatasheetVersion: ver 1, Oct-2004; PackageReference: WE-PD3-X; PackageDescription: SMD Inductor, 2-Leads, Body 18.54 x 15.24 mm; ComponentLink1Description: Manufacturer URL; ComponentLink1URL: http://www.we-online.com; ComponentLink2Description: Datasheet; ComponentLink2URL: http://www.we-online.de/katalog/media/pdf/74459268.pdf
footprint WE-PD3-X (SMD Inductor, 2-Leads, Body 18.54x15.24x7.62 mm)
pins: 1, 2